# Altium footprint library Main_Parts_Library.PcbLib: 4 footprints
Each footprint in its own frame and in the unit in brackets; x right, y up, seen from the top. Pads: shape width x height; smd on the part's side, far side on the other; paste and mask are expansions set on the pad; w line width, h text height; cw(c..) or ccw(c..) is an arc to the next point about the centre after c.
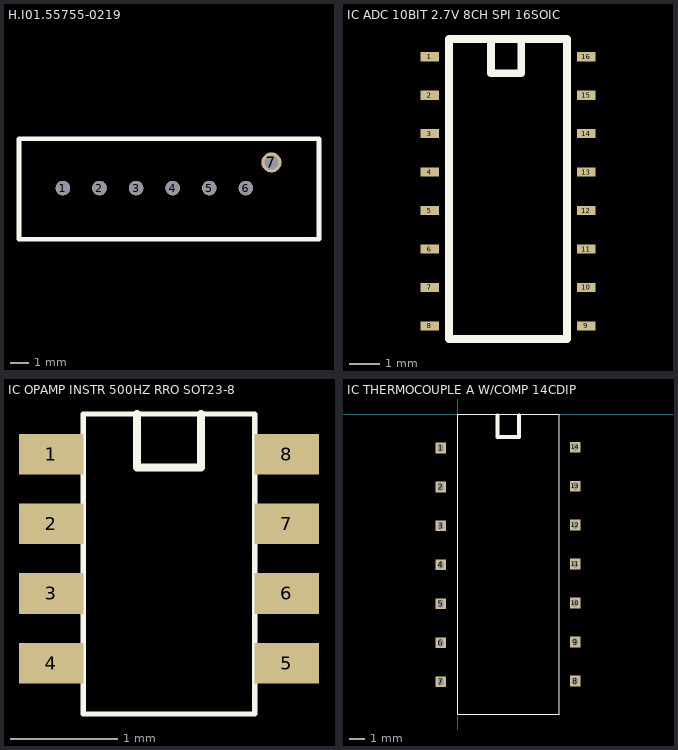
[diagram p0: the footprints below, top view; thin cyan lines are the x and y axes]

## H.I01.55755-0219 [mm] "Vertical Header PCB connector"
pads (7):
  round 0.8 hole 0.762: 1(-1171.5,-1141.8) 2(-1169.5,-1141.8) 3(-1167.5,-1141.8) 4(-1165.5,-1141.8) 5(-1163.5,-1141.8) 6(-1161.5,-1141.8)
  round 1.1 hole 0.762: 7(-1160.1,-1140.4)
Top Overlay:
  lines w0.254: -1173.9,-1144.6 -1157.5,-1144.6 -1157.5,-1139.1 -1160.3,-1139.1 -1172.7,-1139.1 -1173.9,-1139.1 -1173.9,-1140.775 -1173.9,-1142.925 -1173.9,-1144.6

## IC ADC 10BIT 2.7V 8CH SPI 16SOIC [mm] "MCP3008T-I/SLCT-ND"
pads (16):
  rect 0.6x0.31 all layers, no hole: 1(69.48,-64.45) 2(69.48,-65.72) 3(69.48,-66.99) 4(69.48,-68.26) 5(69.48,-69.53) 6(69.48,-70.8) 7(69.48,-72.07) 8(69.48,-73.34) 9(74.64,-73.34) 10(74.64,-72.07) 11(74.64,-70.8) 12(74.64,-69.53) 13(74.64,-68.26) 14(74.64,-66.99) 15(74.64,-65.72) 16(74.64,-64.45)
Top Overlay:
  lines w0.254: 71.5,-64 71.5,-64.5 71.5,-65 72.5,-65 72.5,-63.9 ; 70.11,-73.77 74.01,-73.77 74.01,-63.87 70.11,-63.87 70.11,-73.77

## IC OPAMP INSTR 500HZ RRO SOT23-8 [mm] "AD8293G160ARJZ-R7CT-ND"
pads (8):
  rect 0.6x0.38 all layers, no hole: 1(-186.7,8.125) 2(-186.7,7.475) 3(-186.7,6.825) 4(-186.7,6.175) 5(-184.5,6.175) 6(-184.5,6.825) 7(-184.5,7.475) 8(-184.5,8.125)
Top Overlay:
  lines w0.05: -186.4,5.7 -186.4,8.5 -184.8,8.5 -184.8,5.7 -186.4,5.7
  lines w0.075: -185.9,8.5 -185.9,8 -185.3,8 -185.3,8.5

## IC THERMOCOUPLE A W/COMP 14CDIP [mm] "AD595AQ-ND"
pads (14):
  rect 0.7x0.7 hole 0.35 slot 0.465 at 90 deg: 1(-1.11,-2.21) 2(-1.11,-4.75) 3(-1.11,-7.29) 4(-1.11,-9.83) 6(-1.11,-14.91) 7(-1.11,-17.45) 8(7.66,-17.4) 9(7.66,-14.86) 10(7.66,-12.32) 11(7.66,-9.78) 12(7.66,-7.24) 13(7.66,-4.7) 14(7.66,-2.16)
  rect 0.7x0.7 hole 0.35 slot 0.485 at 90 deg: 5(-1.11,-12.37)
Top Overlay:
  lines w0.05: 0,-19.55 0,0 6.6,0 6.6,-19.55 0,-19.55
  lines w0.254: 2.6,-0.1 2.6,-1.5 4,-1.5 4,-0.1